# Altium footprint library MCP73831T.PcbLib: 3 footprints
Each footprint in its own frame and in the unit in brackets; x right, y up, seen from the top. Pads: shape width x height; smd on the part's side, far side on the other; paste and mask are expansions set on the pad; w line width, h text height; cw(c..) or ccw(c..) is an arc to the next point about the centre after c.
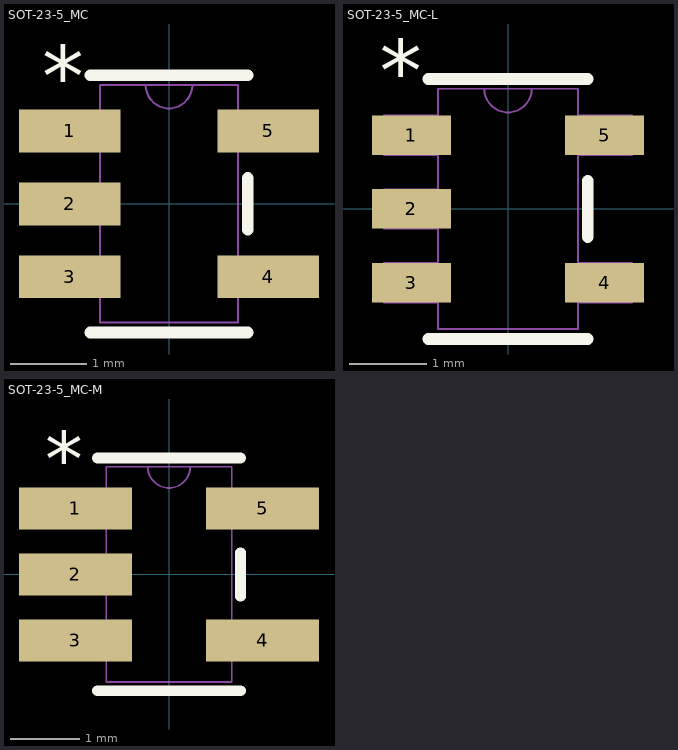
[diagram p0: the footprints below, top view; thin cyan lines are the x and y axes]

## SOT-23-5_MC [mil]
pads (5):
  rect 52x22 smd: 1(-51,37.4) 2(-51,0) 3(-51,-37.4) 4(51,-37.4) 5(51,37.4)
Top Overlay:
  lines w6: -40.5,-66 40.5,-66 ; -40.5,66 40.5,66 ; 40.5,-13.3 40.5,13.3
  text "*" at -65,50 h31.25
Outline:
  lines w1: -12,61 ccw(c0,61) 12,61 ; -63,-47.4 -63,-27.4 -35.5,-27.4 -35.5,-47.4 -63,-47.4 ; -63,-10 -63,10 -35.5,10 -35.5,-10 -63,-10 ; -63,27.4 -63,47.4 -35.5,47.4 -35.5,27.4 -63,27.4 ; -35.5,-61 35.5,-61 35.5,61 -35.5,61 -35.5,-61 ; 35.5,-47.4 35.5,-27.4 63,-27.4 63,-47.4 35.5,-47.4 ; 35.5,27.4 35.5,47.4 63,47.4 63,27.4 35.5,27.4
3D body: height 57.09, standoff 0, extent -62.99,-60.98 63,60.99

## SOT-23-5_MC-L [mil]
pads (5):
  rect 40x20 smd: 1(-49,37.4) 2(-49,0) 3(-49,-37.4) 4(49,-37.4) 5(49,37.4)
Top Overlay:
  lines w6: -40.5,-66 40.5,-66 ; -40.5,66 40.5,66 ; 40.5,-14.3 40.5,14.3
  text "*" at -65,55 h31.25
Outline:
  lines w1: -12,61 ccw(c0,61) 12,61 ; -63,-47.4 -35.5,-47.4 -35.5,-27.4 -63,-27.4 -63,-47.4 ; -63,-10 -35.5,-10 -35.5,10 -63,10 -63,-10 ; -63,27.4 -35.5,27.4 -35.5,47.4 -63,47.4 -63,27.4 ; -35.5,-61 -35.5,61 35.5,61 35.5,-61 -35.5,-61 ; 35.5,-47.4 63,-47.4 63,-27.4 35.5,-27.4 35.5,-47.4 ; 35.5,27.4 63,27.4 63,47.4 35.5,47.4 35.5,27.4
3D body: height 57.09, standoff 0, extent -62.99,-60.98 63,60.99

## SOT-23-5_MC-M [mil]
pads (5):
  rect 64x24 smd: 1(-53,37.4) 2(-53,0) 3(-53,-37.4) 4(53,-37.4) 5(53,37.4)
Top Overlay:
  lines w6: -40.5,-66 40.5,-66 ; -40.5,66 40.5,66 ; 40.5,-12.3 40.5,12.3
  text "*" at -70,50 h31.25
Outline:
  lines w1: -12,61 ccw(c0,61) 12,61 ; -63,-47.4 -35.5,-47.4 -35.5,-27.4 -63,-27.4 -63,-47.4 ; -63,-10 -35.5,-10 -35.5,10 -63,10 -63,-10 ; -63,27.4 -35.5,27.4 -35.5,47.4 -63,47.4 -63,27.4 ; -35.5,-61 -35.5,61 35.5,61 35.5,-61 -35.5,-61 ; 35.5,-47.4 63,-47.4 63,-27.4 35.5,-27.4 35.5,-47.4 ; 35.5,27.4 63,27.4 63,47.4 35.5,47.4 35.5,27.4
3D body: height 57.09, standoff 0, extent -62.99,-60.98 63,60.99